# Altium integrated library Switches.IntLib: 2 symbols
Pins are listed as number, name and electrical type; pins without a type are passive.

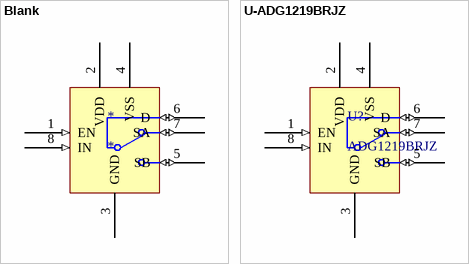
[diagram p0: symbols Blank to U-ADG1219BRJZ]

## Blank
designator *
Manufacturer: *; Part Number: *; Package Type: *; Package Description: *; Circuit: *; Switch Function: *; Voltage Rating (AC/DC): *; Current Rating (AC/DC): *
pins: 1 EN (in) "Active High Digital Input. When this pin is low, th  e device is disabled and all switches are turned off.  When this pin is high, the IN logic in  put determines which switch is turned on", 2 VDD (power) "Positive Power Supply", 3 GND (power) "Ground", 4 VSS (power) "Negative Power Supply", 5 SB (io) "Source Terminal. Can be an input or output.", 6 D (io) "Drain Terminal. Can be an input or output.", 7 SA (io) "Source Terminal. Can be an input or output.", 8 IN (in) "Logic Control Input"

## U-ADG1219BRJZ
designator U?, comment ADG1219BRJZ
IC Switch, SPDT, SOT23-8; Manufacturer: Analog Devices Inc.; Circuit: SPDT -NC/NO; On State Resistance: 475 Ohm; Supply Voltages: +12V or +/- 15V; Current - Supply: 140uA; Part Number: ADG1219BRJZ; Package Type: SOT23-8; Package Description: 8 pin SOT-23; Switch Function: *; Voltage Rating (AC/DC): *; Current Rating (AC/DC): *
footprint SOT23-8 (8 pin SOT-23)
3D model TSOT-23-8 (PCB3D Model)
pins: 1 EN (in) "Active High Digital Input. When this pin is low, th  e device is disabled and all switches are turned off.  When this pin is high, the IN logic in  put determines which switch is turned on", 2 VDD (power) "Positive Power Supply", 3 GND (power) "Ground", 4 VSS (power) "Negative Power Supply", 5 SB (io) "Source Terminal. Can be an input or output.", 6 D (io) "Drain Terminal. Can be an input or output.", 7 SA (io) "Source Terminal. Can be an input or output.", 8 IN (in) "Logic Control Input"